# EAGLE library part SJ-43516 (library Master)
SJ-43516 - Female 3.5mm Audio Connector Datasheet: http://www.cui.com/product/resource/sj-4351x-smt-series.pdf
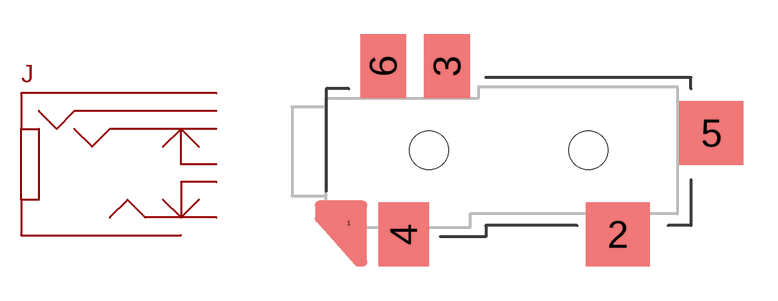
[diagram p4: symbol with the pads of SJ-43516-SMT; footprint SJ-43516-SMT]

Designator prefix J

## SJ-43516  [SJ-43516-SMT]
1  MIC
2  LEFT
3  RIGHT
4  GND
5  LEFT_NC
6  RIGHT_NC

## Footprint SJ-43516-SMT (pad centres in mm)
SJ-43516-SMT
smd 0.3 x 0.3: 1 1,-0.9
smd 2.8 x 2.8: 2 12.8,-1.4; 5 16.9,3.05
smd 2 x 2.8: 3 5.3,6; 6 2.5,6
smd 2.2 x 2.8: 4 3.4,-1.4
hole 1.7 at 4.5,2.3
hole 1.7 at 11.5,2.3